# EAGLE library part SCB9328 (library ADVsocket-computer)
SCB9328 32-Bit ARM9 microcontroller, 200MHz, 10/100 MBit Ethernet, 16MB RAM & Flash
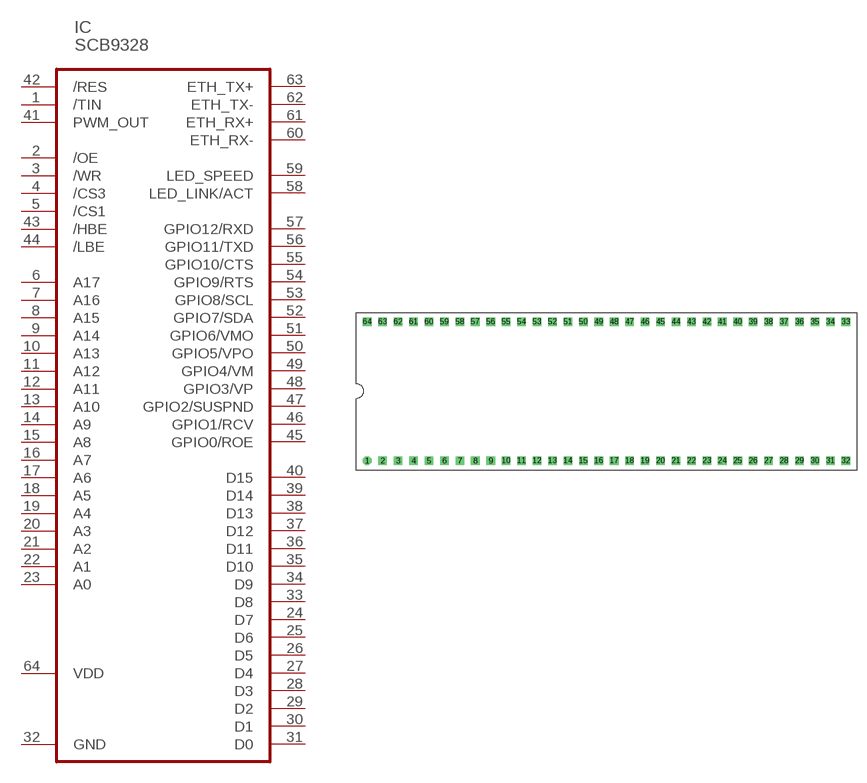
[diagram p1: symbol with the pads of DIL64; footprint DIL64]

Designator prefix IC

## SCB9328  [DIL64]
1  /TIN  in
2  /OE  out
3  /WR  out
4  /CS3  out
5  /CS1  out
6  A17  out
7  A16  out
8  A15  out
9  A14  out
10  A13  out
11  A12  out
12  A11  out
13  A10  out
14  A9  out
15  A8  out
16  A7  out
17  A6  out
18  A5  out
19  A4  out
20  A3  out
21  A2  out
22  A1  out
23  A0  out
24  D7
25  D6
26  D5
27  D4
28  D3
29  D2
30  D1
31  D0
32  GND  pwr
33  D8
34  D9
35  D10
36  D11
37  D12
38  D13
39  D14
40  D15
41  PWM_OUT  out
42  /RES  in
43  /HBE  out
44  /LBE  out
45  GPIO0/ROE
46  GPIO1/RCV
47  GPIO2/SUSPND
48  GPIO3/VP
49  GPIO4/VM
50  GPIO5/VPO
51  GPIO6/VMO
52  GPIO7/SDA
53  GPIO8/SCL
54  GPIO9/RTS
55  GPIO10/CTS
56  GPIO11/TXD
57  GPIO12/RXD
58  LED_LINK/ACT  out
59  LED_SPEED  out
60  ETH_RX-  in
61  ETH_RX+  in
62  ETH_TX-  out
63  ETH_TX+  out
64  VDD  pwr

## Footprint DIL64 (pad centres in mm)
drill 0.813 pad 1.422 octagon: 1 -38.1,-11.43
drill 0.813 pad 1.422 square: 2 -35.56,-11.43; 3 -33.02,-11.43; 4 -30.48,-11.43; 5 -27.94,-11.43; 6 -25.4,-11.43; 7 -22.86,-11.43; 8 -20.32,-11.43; 9 -17.78,-11.43; 10 -15.24,-11.43; 11 -12.7,-11.43; 12 -10.16,-11.43; 13 -7.62,-11.43; 14 -5.08,-11.43; 15 -2.54,-11.43; 16 0,-11.43; 17 2.54,-11.43; 18 5.08,-11.43; 19 7.62,-11.43; 20 10.16,-11.43; 21 12.7,-11.43; 22 15.24,-11.43; 23 17.78,-11.43; 24 20.32,-11.43; 25 22.86,-11.43; 26 25.4,-11.43; 27 27.94,-11.43; 28 30.48,-11.43; 29 33.02,-11.43; 30 35.56,-11.43; 31 38.1,-11.43; 32 40.64,-11.43; 33 40.64,11.43; 34 38.1,11.43; 35 35.56,11.43; 36 33.02,11.43; 37 30.48,11.43; 38 27.94,11.43; 39 25.4,11.43; 40 22.86,11.43; 41 20.32,11.43; 42 17.78,11.43; 43 15.24,11.43; 44 12.7,11.43; 45 10.16,11.43; 46 7.62,11.43; 47 5.08,11.43; 48 2.54,11.43; 49 0,11.43; 50 -2.54,11.43; 51 -5.08,11.43; 52 -7.62,11.43; 53 -10.16,11.43; 54 -12.7,11.43; 55 -15.24,11.43; 56 -17.78,11.43; 57 -20.32,11.43; 58 -22.86,11.43; 59 -25.4,11.43; 60 -27.94,11.43; 61 -30.48,11.43; 62 -33.02,11.43; 63 -35.56,11.43; 64 -38.1,11.43